# Altium footprint library Resistor_SMD.PcbLib: 62 footprints (part 2 of 4)
Each footprint in its own frame and in the unit in brackets; x right, y up, seen from the top. Pads: shape width x height; smd on the part's side, far side on the other; paste and mask are expansions set on the pad; w line width, h text height; cw(c..) or ccw(c..) is an arc to the next point about the centre after c.
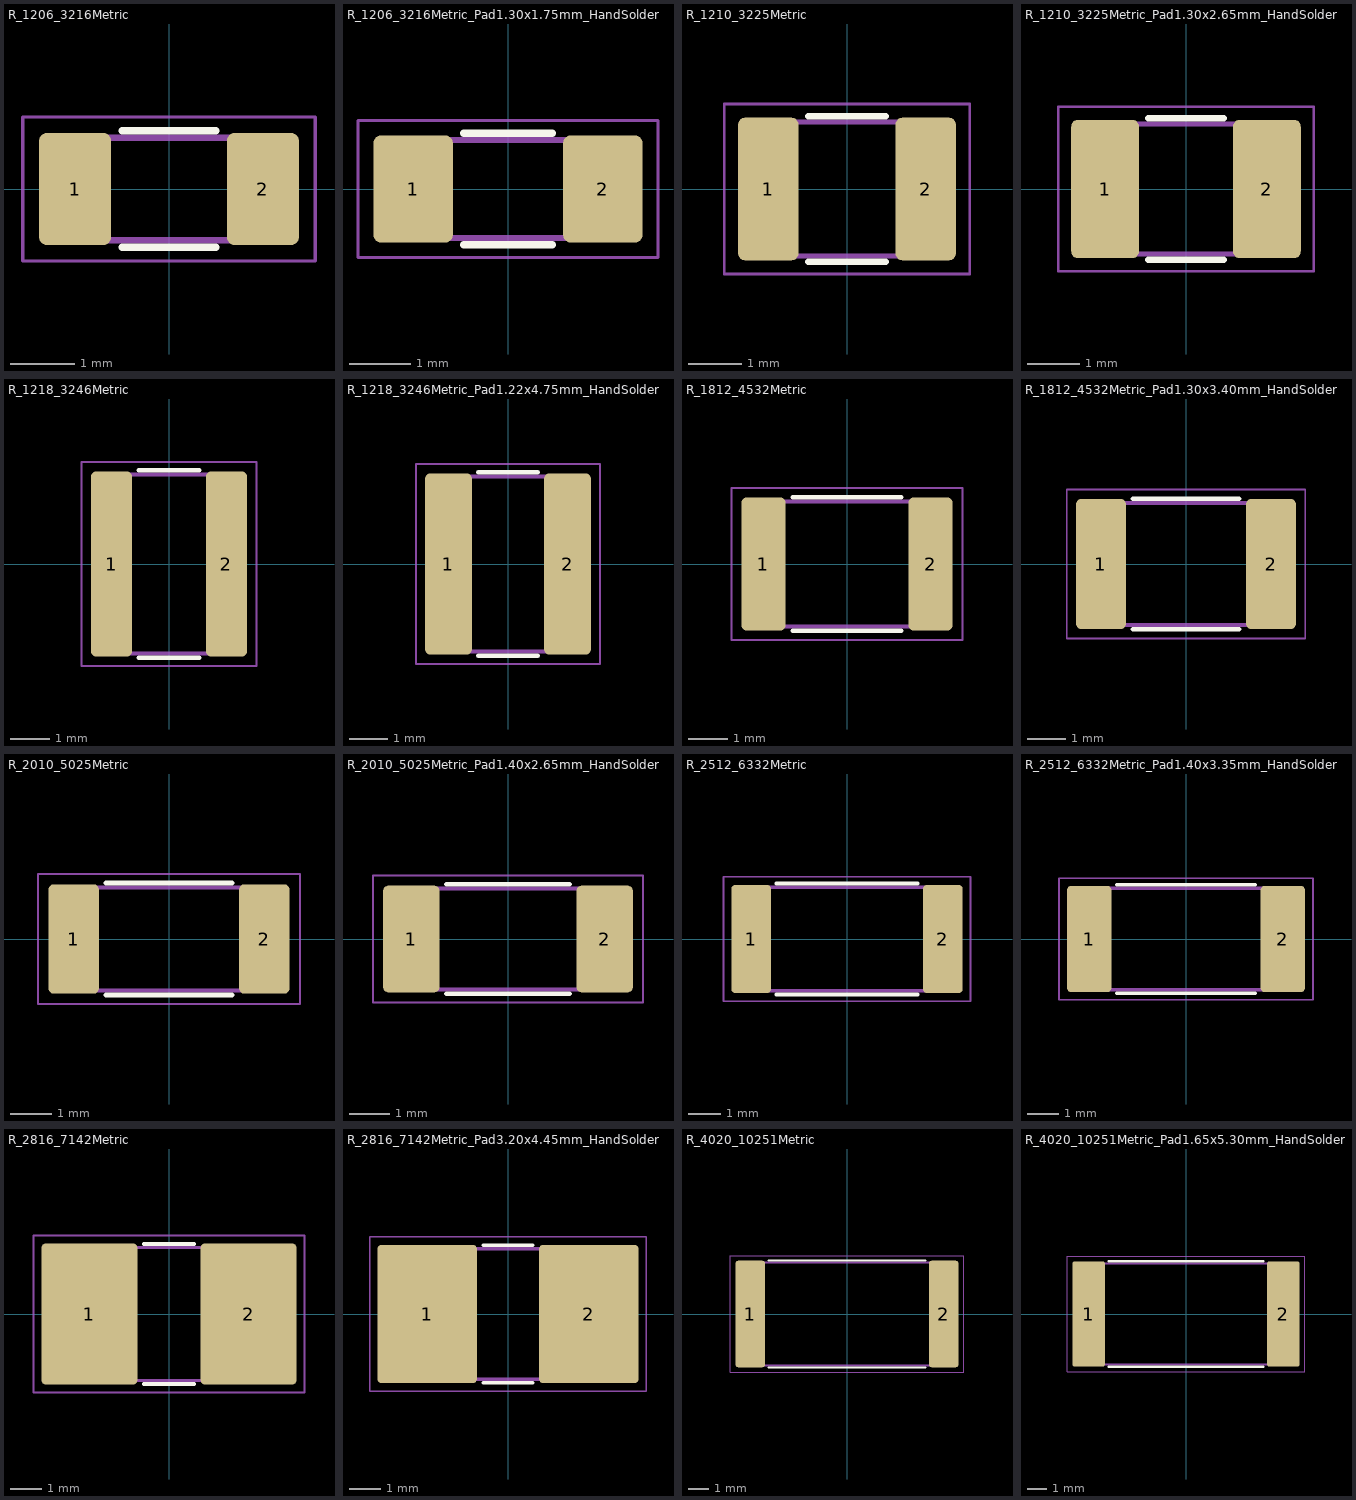
[diagram p1: the footprints below, top view; thin cyan lines are the x and y axes]

## R_1206_3216Metric [mm]
pads (2):
  rrect22% 1.125x1.75 smd: 1(-1.462,0) 2(1.462,0)
F.SilkS:
  lines w0.12: -0.727,-0.91 0.727,-0.91 ; -0.727,0.91 0.727,0.91
F.CrtYd:
  lines w0.05: -2.28,-1.12 -2.28,1.12 2.28,1.12 2.28,-1.12 -2.28,-1.12
F.Fab:
  lines w0.1: -1.6,-0.8 1.6,-0.8 1.6,0.8 -1.6,0.8 -1.6,-0.8
  text "'.Designator'" at -3.117,-0.286 h0.8
3D body "R_1206_3216Metric.step": height 0.55, standoff 0, extent -1.6,-0.8 1.6,0.8

## R_1206_3216Metric_Pad1.30x1.75mm_HandSolder [mm]
pads (2):
  rrect19% 1.3x1.75 smd: 1(-1.55,0) 2(1.55,0)
F.SilkS:
  lines w0.12: -0.727,-0.91 0.727,-0.91 ; -0.727,0.91 0.727,0.91
F.CrtYd:
  lines w0.05: -2.45,-1.12 2.45,-1.12 2.45,1.12 -2.45,1.12 -2.45,-1.12
F.Fab:
  lines w0.1: -1.6,-0.8 -1.6,0.8 1.6,0.8 1.6,-0.8 -1.6,-0.8
  text "'.Designator'" at -3.117,-0.286 h0.8
3D body "R_1206_3216Metric.step": height 0.55, standoff 0, extent -1.6,-0.8 1.6,0.8

## R_1210_3225Metric [mm]
pads (2):
  rrect22% 1.125x2.65 smd: 1(-1.462,0) 2(1.462,0)
F.SilkS:
  lines w0.12: -0.724,-1.355 0.724,-1.355 ; -0.724,1.355 0.724,1.355
F.CrtYd:
  lines w0.05: -2.28,-1.58 -2.28,1.58 2.28,1.58 2.28,-1.58 -2.28,-1.58
F.Fab:
  lines w0.1: -1.6,-1.245 -1.6,1.245 1.6,1.245 1.6,-1.245 -1.6,-1.245
  text "'.Designator'" at -3.117,-0.286 h0.8
3D body "R_1210_3225Metric.step": height 0.55, standoff 0, extent -1.6,-1.25 1.6,1.25

## R_1210_3225Metric_Pad1.30x2.65mm_HandSolder [mm]
pads (2):
  rrect19% 1.3x2.65 smd: 1(-1.55,0) 2(1.55,0)
F.SilkS:
  lines w0.12: -0.724,-1.355 0.724,-1.355 ; -0.724,1.355 0.724,1.355
F.CrtYd:
  lines w0.05: -2.45,-1.58 2.45,-1.58 2.45,1.58 -2.45,1.58 -2.45,-1.58
F.Fab:
  lines w0.1: -1.6,-1.245 -1.6,1.245 1.6,1.245 1.6,-1.245 -1.6,-1.245
  text "'.Designator'" at -3.117,-0.286 h0.8
3D body "R_1210_3225Metric.step": height 0.55, standoff 0, extent -1.6,-1.25 1.6,1.25

## R_1218_3246Metric [mm]
pads (2):
  rrect24% 1.05x4.75 smd: 1(-1.475,0) 2(1.475,0)
F.SilkS:
  lines w0.12: -0.777,-2.41 0.777,-2.41 ; -0.777,2.41 0.777,2.41
F.CrtYd:
  lines w0.05: -2.25,-2.62 -2.25,2.62 2.25,2.62 2.25,-2.62 -2.25,-2.62
F.Fab:
  lines w0.1: -1.6,-2.3 1.6,-2.3 1.6,2.3 -1.6,2.3 -1.6,-2.3
  text "'.Designator'" at -3.117,-0.286 h0.8
3D body "R_1218_3246Metric.step": height 0.55, standoff 0, extent -1.6,-2.3 1.6,2.3

## R_1218_3246Metric_Pad1.22x4.75mm_HandSolder [mm]
pads (2):
  rrect20% 1.225x4.75 smd: 1(-1.562,0) 2(1.562,0)
F.SilkS:
  lines w0.12: -0.777,-2.41 0.777,-2.41 ; -0.777,2.41 0.777,2.41
F.CrtYd:
  lines w0.05: -2.42,-2.62 -2.42,2.62 2.42,2.62 2.42,-2.62 -2.42,-2.62
F.Fab:
  lines w0.1: -1.6,-2.3 -1.6,2.3 1.6,2.3 1.6,-2.3 -1.6,-2.3
  text "'.Designator'" at -3.117,-0.286 h0.8
3D body "R_1218_3246Metric.step": height 0.55, standoff 0, extent -1.6,-2.3 1.6,2.3

## R_1812_4532Metric [mm]
pads (2):
  rrect22% 1.125x3.4 smd: 1(-2.137,0) 2(2.137,0)
F.SilkS:
  lines w0.12: -1.386,-1.71 1.386,-1.71 ; -1.386,1.71 1.386,1.71
F.CrtYd:
  lines w0.05: -2.95,-1.95 -2.95,1.95 2.95,1.95 2.95,-1.95 -2.95,-1.95
F.Fab:
  lines w0.1: -2.25,-1.6 2.25,-1.6 2.25,1.6 -2.25,1.6 -2.25,-1.6
  text "'.Designator'" at -3.897,-0.357 h1
3D body "R_1812_4532Metric.step": height 0.6, standoff 0, extent -2.25,-1.6 2.25,1.6

## R_1812_4532Metric_Pad1.30x3.40mm_HandSolder [mm]
pads (2):
  rrect19% 1.3x3.4 smd: 1(-2.225,0) 2(2.225,0)
F.SilkS:
  lines w0.12: -1.386,-1.71 1.386,-1.71 ; -1.386,1.71 1.386,1.71
F.CrtYd:
  lines w0.05: -3.12,-1.95 3.12,-1.95 3.12,1.95 -3.12,1.95 -3.12,-1.95
F.Fab:
  lines w0.1: -2.25,-1.6 2.25,-1.6 2.25,1.6 -2.25,1.6 -2.25,-1.6
  text "'.Designator'" at -3.897,-0.357 h1
3D body "R_1812_4532Metric.step": height 0.6, standoff 0, extent -2.25,-1.6 2.25,1.6

## R_2010_5025Metric [mm]
pads (2):
  rrect20% 1.225x2.65 smd: 1(-2.312,0) 2(2.312,0)
F.SilkS:
  lines w0.12: -1.527,-1.36 1.527,-1.36 ; -1.527,1.36 1.527,1.36
F.CrtYd:
  lines w0.05: -3.18,-1.58 3.18,-1.58 3.18,1.58 -3.18,1.58 -3.18,-1.58
F.Fab:
  lines w0.1: -2.5,-1.25 2.5,-1.25 2.5,1.25 -2.5,1.25 -2.5,-1.25
  text "'.Designator'" at -3.897,-0.357 h1
3D body "R_2010_5025Metric.step": height 0.6, standoff 0, extent -2.5,-1.25 2.5,1.25

## R_2010_5025Metric_Pad1.40x2.65mm_HandSolder [mm]
pads (2):
  rrect18% 1.4x2.65 smd: 1(-2.4,0) 2(2.4,0)
F.SilkS:
  lines w0.12: -1.527,-1.36 1.527,-1.36 ; -1.527,1.36 1.527,1.36
F.CrtYd:
  lines w0.05: -3.35,-1.58 3.35,-1.58 3.35,1.58 -3.35,1.58 -3.35,-1.58
F.Fab:
  lines w0.1: -2.5,-1.25 -2.5,1.25 2.5,1.25 2.5,-1.25 -2.5,-1.25
  text "'.Designator'" at -3.897,-0.357 h1
3D body "R_2010_5025Metric.step": height 0.6, standoff 0, extent -2.5,-1.25 2.5,1.25

## R_2512_6332Metric [mm]
pads (2):
  rrect20% 1.225x3.35 smd: 1(-2.963,0) 2(2.963,0)
F.SilkS:
  lines w0.12: -2.177,-1.71 2.177,-1.71 ; -2.177,1.71 2.177,1.71
F.CrtYd:
  lines w0.05: -3.82,-1.92 -3.82,1.92 3.82,1.92 3.82,-1.92 -3.82,-1.92
F.Fab:
  lines w0.1: -3.15,-1.6 3.15,-1.6 3.15,1.6 -3.15,1.6 -3.15,-1.6
  text "'.Designator'" at -3.897,-0.357 h1
3D body "R_2512_6332Metric.step": height 0.6, standoff 0, extent -3.15,-1.6 3.15,1.6

## R_2512_6332Metric_Pad1.40x3.35mm_HandSolder [mm]
pads (2):
  rrect18% 1.4x3.35 smd: 1(-3.05,0) 2(3.05,0)
F.SilkS:
  lines w0.12: -2.177,-1.71 2.177,-1.71 ; -2.177,1.71 2.177,1.71
F.CrtYd:
  lines w0.05: -4,-1.92 4,-1.92 4,1.92 -4,1.92 -4,-1.92
F.Fab:
  lines w0.1: -3.15,-1.6 3.15,-1.6 3.15,1.6 -3.15,1.6 -3.15,-1.6
  text "'.Designator'" at -3.897,-0.357 h1
3D body "R_2512_6332Metric.step": height 0.6, standoff 0, extent -3.15,-1.6 3.15,1.6

## R_2816_7142Metric [mm]
pads (2):
  rrect8% 3.025x4.45 smd: 1(-2.512,0) 2(2.512,0)
F.SilkS:
  lines w0.12: -0.797,-2.21 0.797,-2.21 ; -0.797,2.21 0.797,2.21
F.CrtYd:
  lines w0.05: -4.28,-2.48 -4.28,2.48 4.28,2.48 4.28,-2.48 -4.28,-2.48
F.Fab:
  lines w0.1: -3.55,-2.1 3.55,-2.1 3.55,2.1 -3.55,2.1 -3.55,-2.1
  text "'.Designator'" at -3.897,-0.357 h1
3D body "R_2816_7142Metric.step": height 0.6, standoff 0, extent -3.55,-2.1 3.55,2.1

## R_2816_7142Metric_Pad3.20x4.45mm_HandSolder [mm]
pads (2):
  rrect8% 3.2x4.45 smd: 1(-2.6,0) 2(2.6,0)
F.SilkS:
  lines w0.12: -0.797,-2.21 0.797,-2.21 ; -0.797,2.21 0.797,2.21
F.CrtYd:
  lines w0.05: -4.45,-2.48 -4.45,2.48 4.45,2.48 4.45,-2.48 -4.45,-2.48
F.Fab:
  lines w0.1: -3.55,-2.1 -3.55,2.1 3.55,2.1 3.55,-2.1 -3.55,-2.1
  text "'.Designator'" at -3.897,-0.357 h1
3D body "R_2816_7142Metric.step": height 0.6, standoff 0, extent -3.55,-2.1 3.55,2.1

## R_4020_10251Metric [mm]
pads (2):
  rrect17% 1.475x5.3 smd: 1(-4.812,0) 2(4.812,0)
F.SilkS:
  lines w0.12: -3.886,-2.66 3.886,-2.66 ; -3.886,2.66 3.886,2.66
F.CrtYd:
  lines w0.05: -5.8,-2.9 -5.8,2.9 5.8,2.9 5.8,-2.9 -5.8,-2.9
F.Fab:
  lines w0.1: -5.1,-2.55 5.1,-2.55 5.1,2.55 -5.1,2.55 -5.1,-2.55
  text "'.Designator'" at -3.897,-0.357 h1
3D body "R_4020_10251Metric.step": height 0.6, standoff 0, extent -5.1,-2.55 5.1,2.55

## R_4020_10251Metric_Pad1.65x5.30mm_HandSolder [mm]
pads (2):
  rrect15% 1.65x5.3 smd: 1(-4.9,0) 2(4.9,0)
F.SilkS:
  lines w0.12: -3.886,-2.66 3.886,-2.66 ; -3.886,2.66 3.886,2.66
F.CrtYd:
  lines w0.05: -5.98,-2.9 5.98,-2.9 5.98,2.9 -5.98,2.9 -5.98,-2.9
F.Fab:
  lines w0.1: -5.1,-2.55 -5.1,2.55 5.1,2.55 5.1,-2.55 -5.1,-2.55
  text "'.Designator'" at -3.897,-0.357 h1
3D body "R_4020_10251Metric.step": height 0.6, standoff 0, extent -5.1,-2.55 5.1,2.55